# Altium footprint library V_5.PcbLib: 4 footprints
Each footprint in its own frame and in the unit in brackets; x right, y up, seen from the top. Pads: shape width x height; smd on the part's side, far side on the other; paste and mask are expansions set on the pad; w line width, h text height; cw(c..) or ccw(c..) is an arc to the next point about the centre after c.
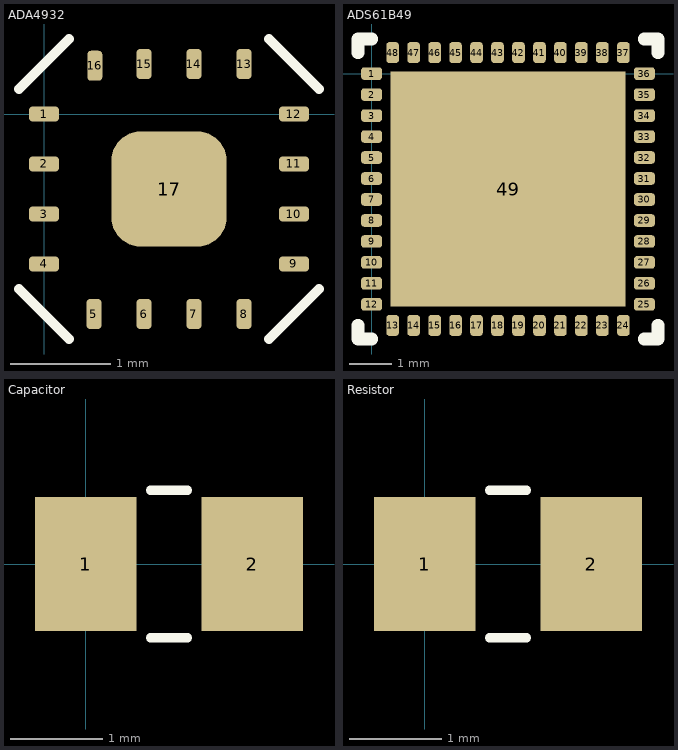
[diagram p0: the footprints below, top view; thin cyan lines are the x and y axes]

## ADA4932 [mm]
pads (17):
  rrect50% 0.3x0.15 smd: 1(0,0) 2(0,-0.5) 3(0,-1) 4(0,-1.5) 9(2.5,-1.5) 10(2.5,-1) 11(2.5,-0.5) 12(2.5,0)
  rrect50% 0.15x0.3 smd: 5(0.5,-2) 6(1,-2) 7(1.5,-2) 8(2,-2) 13(2,0.5) 14(1.5,0.5) 15(1,0.5) 16(0.508,0.483)
  rrect50% 1.15x1.15 smd: 17(1.25,-0.75)
Top Overlay:
  lines w0.1: -0.25,-1.75 0.25,-2.25 ; -0.25,0.25 0.25,0.75 ; 2.25,-2.25 2.75,-1.75 ; 2.25,0.75 2.75,0.25

## ADS61B49 [mm]
pads (49):
  rrect50% 0.5x0.3 smd: 1(0,0) 2(0,-0.5) 3(0,-1) 4(0,-1.5) 5(0,-2) 6(0,-2.5) 7(0,-3) 8(0,-3.5) 9(0,-4) 10(0,-4.5) 11(0,-5) 12(0,-5.5) 25(6.5,-5.5) 26(6.5,-5) 27(6.5,-4.5) 28(6.5,-4) 29(6.5,-3.5) 30(6.5,-3) 31(6.5,-2.5) 32(6.5,-2) 33(6.5,-1.5) 34(6.5,-1) 35(6.5,-0.5) 36(6.5,0)
  rrect50% 0.3x0.5 smd: 13(0.5,-6) 14(1,-6) 15(1.5,-6) 16(2,-6) 17(2.5,-6) 18(3,-6) 19(3.5,-6) 20(4,-6) 21(4.5,-6) 22(5,-6) 23(5.5,-6) 24(6,-6) 37(6,0.5) 38(5.5,0.5) 39(5,0.5) 40(4.5,0.5) 41(4,0.5) 42(3.5,0.5) 43(3,0.5) 44(2.5,0.5) 45(2,0.5) 46(1.5,0.5) 47(1,0.5) 48(0.5,0.5)
  rect 5.6x5.6 smd: 49(3.25,-2.75)
Top Overlay:
  lines w0.3: -0.325,-6 -0.325,-6.325 0,-6.325 ; -0.325,0.5 -0.325,0.825 0,0.825 ; 6.5,-6.325 6.825,-6.325 6.825,-6 ; 6.5,0.825 6.825,0.825 6.825,0.5

## Capacitor [mm]
pads (2):
  rect 1.1x1.45 smd: 1(0,0) 2(1.8,0)
Top Overlay:
  lines w0.1: 0.7,-0.8 1.1,-0.8 ; 0.7,0.8 1.1,0.8

## Resistor [mm]
pads (2):
  rect 1.1x1.45 smd: 1(0,0) 2(1.8,0)
Top Overlay:
  lines w0.1: 0.7,-0.8 1.1,-0.8 ; 0.7,0.8 1.1,0.8